# Altium schematic symbol library usb2534i-1080aen.SchLib: 1 symbol
Pins are listed as number, name and electrical type; pins without a type are passive.

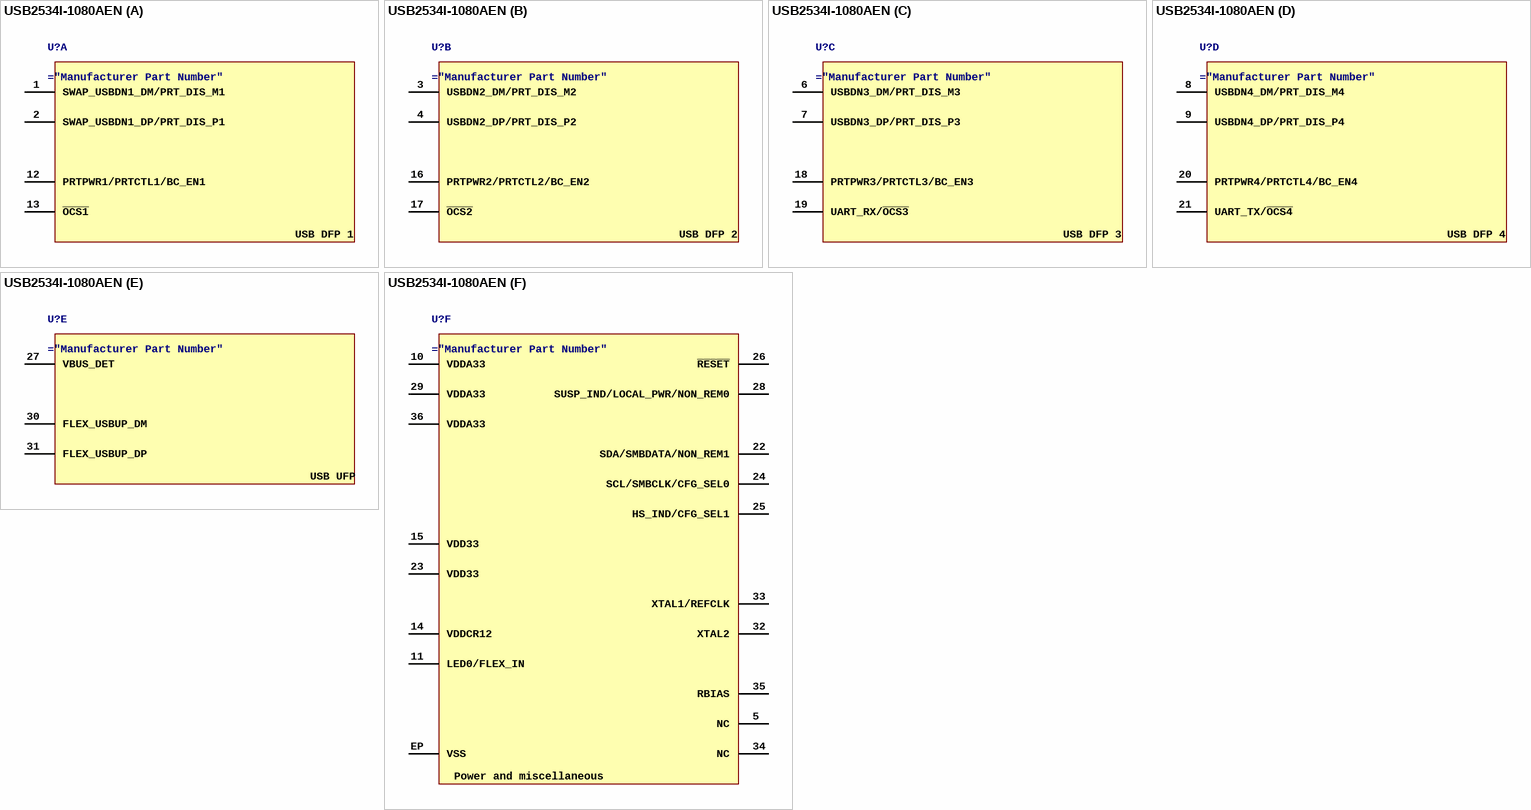
[diagram p0: symbol USB2534I-1080AEN]

## USB2534I-1080AEN
designator U?
USB Bus Controller, CMOS
part A pins: 1 SWAP_USBDN1_DM/PRT_DIS_M1, 2 SWAP_USBDN1_DP/PRT_DIS_P1, 12 PRTPWR1/PRTCTL1/BC_EN1, 13 ~{OCS1}
part B pins: 3 USBDN2_DM/PRT_DIS_M2, 4 USBDN2_DP/PRT_DIS_P2, 16 PRTPWR2/PRTCTL2/BC_EN2, 17 ~{OCS2}
part C pins: 6 USBDN3_DM/PRT_DIS_M3, 7 USBDN3_DP/PRT_DIS_P3, 18 PRTPWR3/PRTCTL3/BC_EN3, 19 UART_RX/~{OCS3}
part D pins: 8 USBDN4_DM/PRT_DIS_M4, 9 USBDN4_DP/PRT_DIS_P4, 20 PRTPWR4/PRTCTL4/BC_EN4, 21 UART_TX/~{OCS4}
part E pins: 27 VBUS_DET, 30 FLEX_USBUP_DM, 31 FLEX_USBUP_DP
part F pins: 5 NC, 10 VDDA33, 11 LED0/FLEX_IN, 14 VDDCR12, 15 VDD33, 22 SDA/SMBDATA/NON_REM1, 23 VDD33, 24 SCL/SMBCLK/CFG_SEL0, 25 HS_IND/CFG_SEL1, 26 ~{RESET}, 28 SUSP_IND/LOCAL_PWR/NON_REM0, 29 VDDA33, 32 XTAL2, 33 XTAL1/REFCLK, 34 NC, 35 RBIAS, 36 VDDA33, EP VSS
part A text: USB DFP 1
part B text: USB DFP 2
part C text: USB DFP 3
part D text: USB DFP 4
part E text: USB UFP
part F text: Power and miscellaneous